# Altium footprint library common chip cases.PcbLib: 3 footprints
Each footprint in its own frame and in the unit in brackets; x right, y up, seen from the top. Pads: shape width x height; smd on the part's side, far side on the other; paste and mask are expansions set on the pad; w line width, h text height; cw(c..) or ccw(c..) is an arc to the next point about the centre after c.
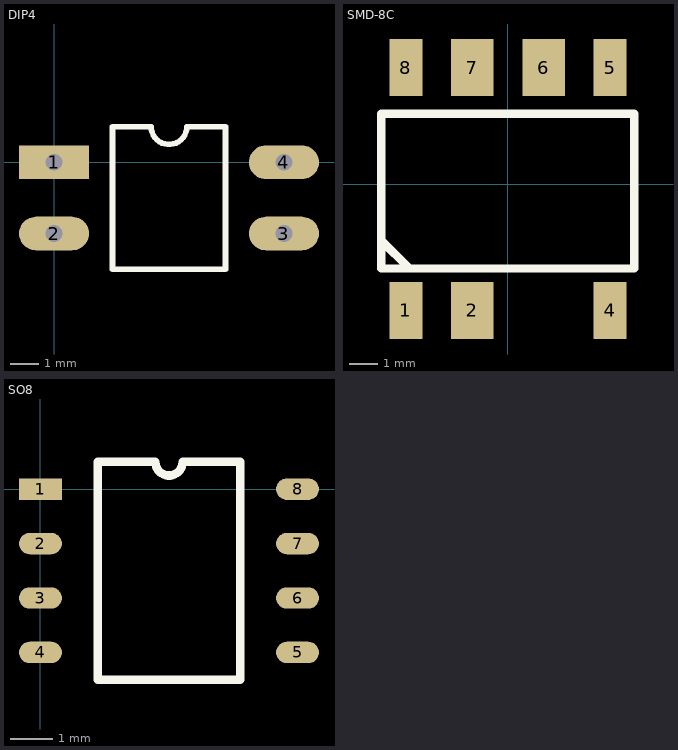
[diagram p0: the footprints below, top view; thin cyan lines are the x and y axes]

## DIP4 [mm]
pads (4):
  rect 2.5x1.2 hole 0.6: 1(0,0)
  oval 2.5x1.2 hole 0.6: 2(0,-2.54) 3(8.2,-2.54) 4(8.2,0)
Top Overlay:
  lines w0.2: 2.085,-3.81 6.115,-3.81 6.115,1.27 4.735,1.27 cw(c4.1,1.27) 3.465,1.27 2.085,1.27 2.085,-3.81

## SMD-8C [mil] "SMD"
height 157.48
pads (7):
  rect 46x80 smd: 1(-142.65,-176.85) 4(143.35,-176.85) 5(143.39,163.25) 8(-142.61,163.25)
  rect 60x80 smd: 2(-49.65,-176.85) 6(50.39,163.25) 7(-49.61,163.25)
Top Overlay:
  lines w11.81: -137.8,-118.11 -177.17,-78.74 ; -177.17,-78.74 -177.17,-78.74 ; -177.17,-118.11 177.17,-118.11 177.17,98.43 -177.17,98.43 -177.17,-118.11

## SO8 [mm] "Auto Footprint"
height 2
pads (8):
  rect 1x0.5 smd: 1(0,0)
  oval 1x0.5 smd: 2(0,-1.27) 3(0,-2.54) 4(0,-3.81) 5(6,-3.81) 6(6,-2.54) 7(6,-1.27) 8(6,0)
Top Overlay:
  lines w0.2: 1.335,-4.445 1.335,0.635 2.682,0.635 ccw(c3,0.635) 3.317,0.635 4.665,0.635 4.665,-4.445 1.335,-4.445